# Altium schematic symbol library SchlibCasino.SchLib: 15 symbols
Pins are listed as number, name and electrical type; pins without a type are passive.

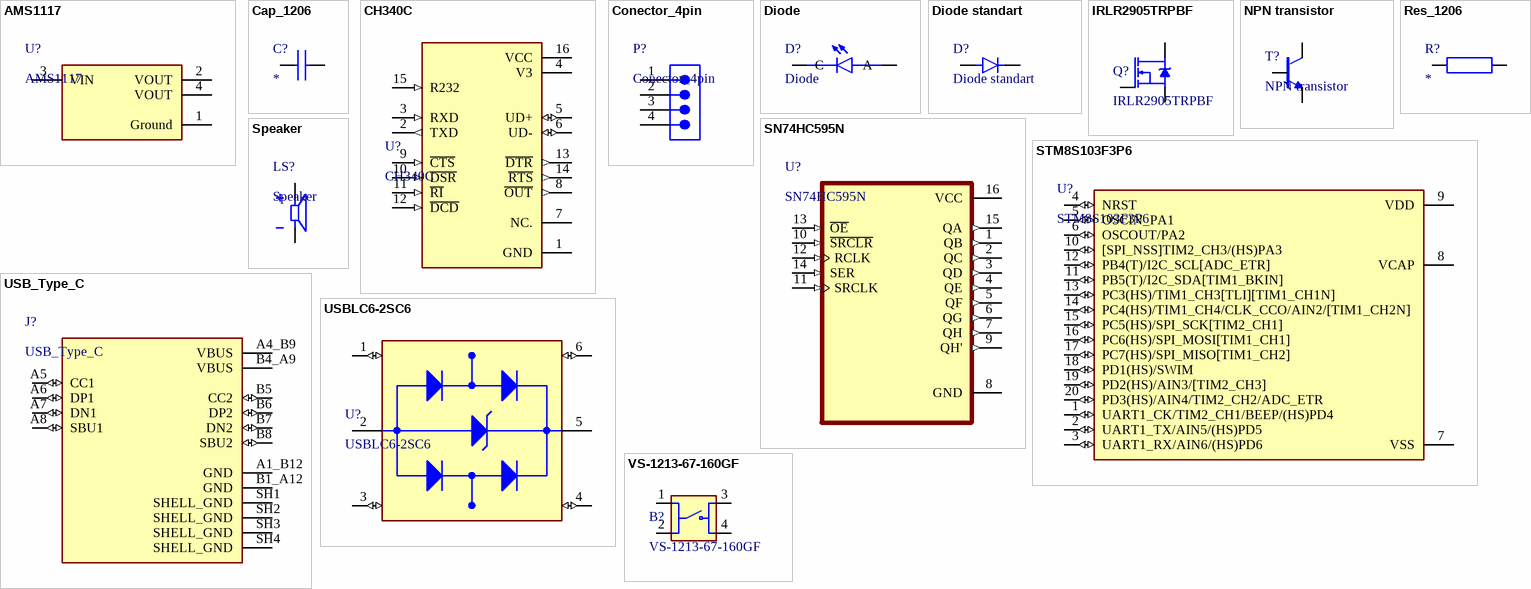
[diagram p0: symbols AMS1117 to VS-1213-67-160GF]

## AMS1117
designator U?
footprint AMS1117_SOT223 (SOT223, 4-Leads, Body 6.50x7.00mm (avg), Pitch 2.30mm, IPC Low Density)
pins: 1 Ground (power), 2 VOUT, 3 VIN (power), 4 VOUT

## Cap_1206
designator C?
Value: *
footprint Cap_1206
pins: 1, 2

## CH340С
designator U?
footprint CH340С
pins: 1 GND (power), 2 TXD (out), 3 RXD (in), 4 V3 (power), 5 UD+ (io), 6 UD- (io), 7 NC., 8 ~{OUT} (out), 9 ~{CTS} (in), 10 ~{DSR} (in), 11 ~{RI} (in), 12 ~{DCD} (in), 13 ~{DTR} (out), 14 ~{RTS} (out), 15 R232 (in), 16 VCC (power)

## Conector_4pin
designator P?
footprint Conector_4pins
pins: 1, 2, 3, 4

## Diode
designator D?
footprint Diode_Yellow (LED y)
footprint Diode_Green (LED g)
footprint SMD LED
pins: A, C

## Diode standart
designator D?
footprint Diode standart
pins: A, C K

## IRLR2905TRPBF
designator Q?
footprint IRLR2905TRPBF
pins: 1 G, 2 D, 3 S, PAD D

## NPN transistor
designator T?
footprint NPN transistor
pins: 1 B, 2 C, 3 E, 4 C

## Res_1206
designator R?
Value: *
footprint Res_1206 (Chip Resistor, 2-Leads, Body 3.10x1.60mm, IPC Low Density)
pins: 1, 1, 2, 2

## SN74HC595N
designator U?
footprint SN74HC595N
pins: 1 QB (out), 2 QC (out), 3 QD (out), 4 QE (out), 5 QF (out), 6 QG (out), 7 QH (out), 8 GND (power), 9 QH' (out), 10 ~{SRCLR} (in), 11 SRCLK (in), 12 RCLK (in), 13 ~{OE} (in), 14 SER (in), 15 QA (out), 16 VCC (power)

## Speaker
designator LS?
footprint Speaker
pins: N, P

## STM8S103F3P6
designator U?
footprint SOP65P640X120-20N
pins: 1 UART1_CK/TIM2_CH1/BEEP/(HS)PD4 (io), 2 UART1_TX/AIN5/(HS)PD5 (io), 3 UART1_RX/AIN6/(HS)PD6 (io), 4 NRST (io), 5 OSCIN_PA1 (io), 6 OSCOUT/PA2 (io), 7 VSS (power), 8 VCAP, 9 VDD (power), 10 [SPI_NSS]TIM2_CH3/(HS)PA3 (io), 11 PB5(T)/I2C_SDA[TIM1_BKIN] (io), 12 PB4(T)/I2C_SCL[ADC_ETR] (io), 13 PC3(HS)/TIM1_CH3[TLI][TIM1_CH1N] (io), 14 PC4(HS)/TIM1_CH4/CLK_CCO/AIN2/[TIM1_CH2N] (io), 15 PC5(HS)/SPI_SCK[TIM2_CH1] (io), 16 PC6(HS)/SPI_MOSI[TIM1_CH1] (io), 17 PC7(HS)/SPI_MISO[TIM1_CH2] (io), 18 PD1(HS)/SWIM (io), 19 PD2(HS)/AIN3/[TIM2_CH3] (io), 20 PD3(HS)/AIN4/TIM2_CH2/ADC_ETR (io)

## USB_Type_C
designator J?
footprint USB_Type_C
pins: A1_B12 GND (power), A4_B9 VBUS (power), A5 CC1 (io), A6 DP1 (io), A7 DN1 (io), A8 SBU1 (io), B1_A12 GND (power), B4_A9 VBUS (power), B5 CC2 (io), B6 DP2 (io), B7 DN2 (io), B8 SBU2 (io), SH1 SHELL_GND (power), SH2 SHELL_GND (power), SH3 SHELL_GND (power), SH4 SHELL_GND (power)

## USBLC6-2SC6
designator U?
footprint USBLC6-2SC6
pins: 1 I/O1_IN (io), 2 GND (power), 3 I/O2_IN (io), 4 I/O2_OUT (io), 5 VBUS (power), 6 I/O1_OUT (io)

## VS-1213-67-160GF
designator B?
Button 12*12mm
footprint Button (12*12mm)
pins: 1, 2, 3, 4